# Altium schematic symbol library LT1308X.SchLib: 1 symbol
Pins are listed as number, name and electrical type; pins without a type are passive.

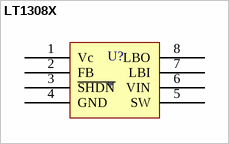
[diagram p0: symbol LT1308X]

## LT1308X
designator U?
Part No.: LT1308X; Vendor: Linear Technology; Price Est.: $3.95; Manufacturer: Linear Technology
pins: 1 Vc, 2 FB, 3 ~{SHDN}, 4 GND, 5 SW, 6 VIN, 7 LBI, 8 LBO